# Altium schematic symbol library SCUM-V.SchLib: 2 symbols
Pins are listed as number, name and electrical type; pins without a type are passive.

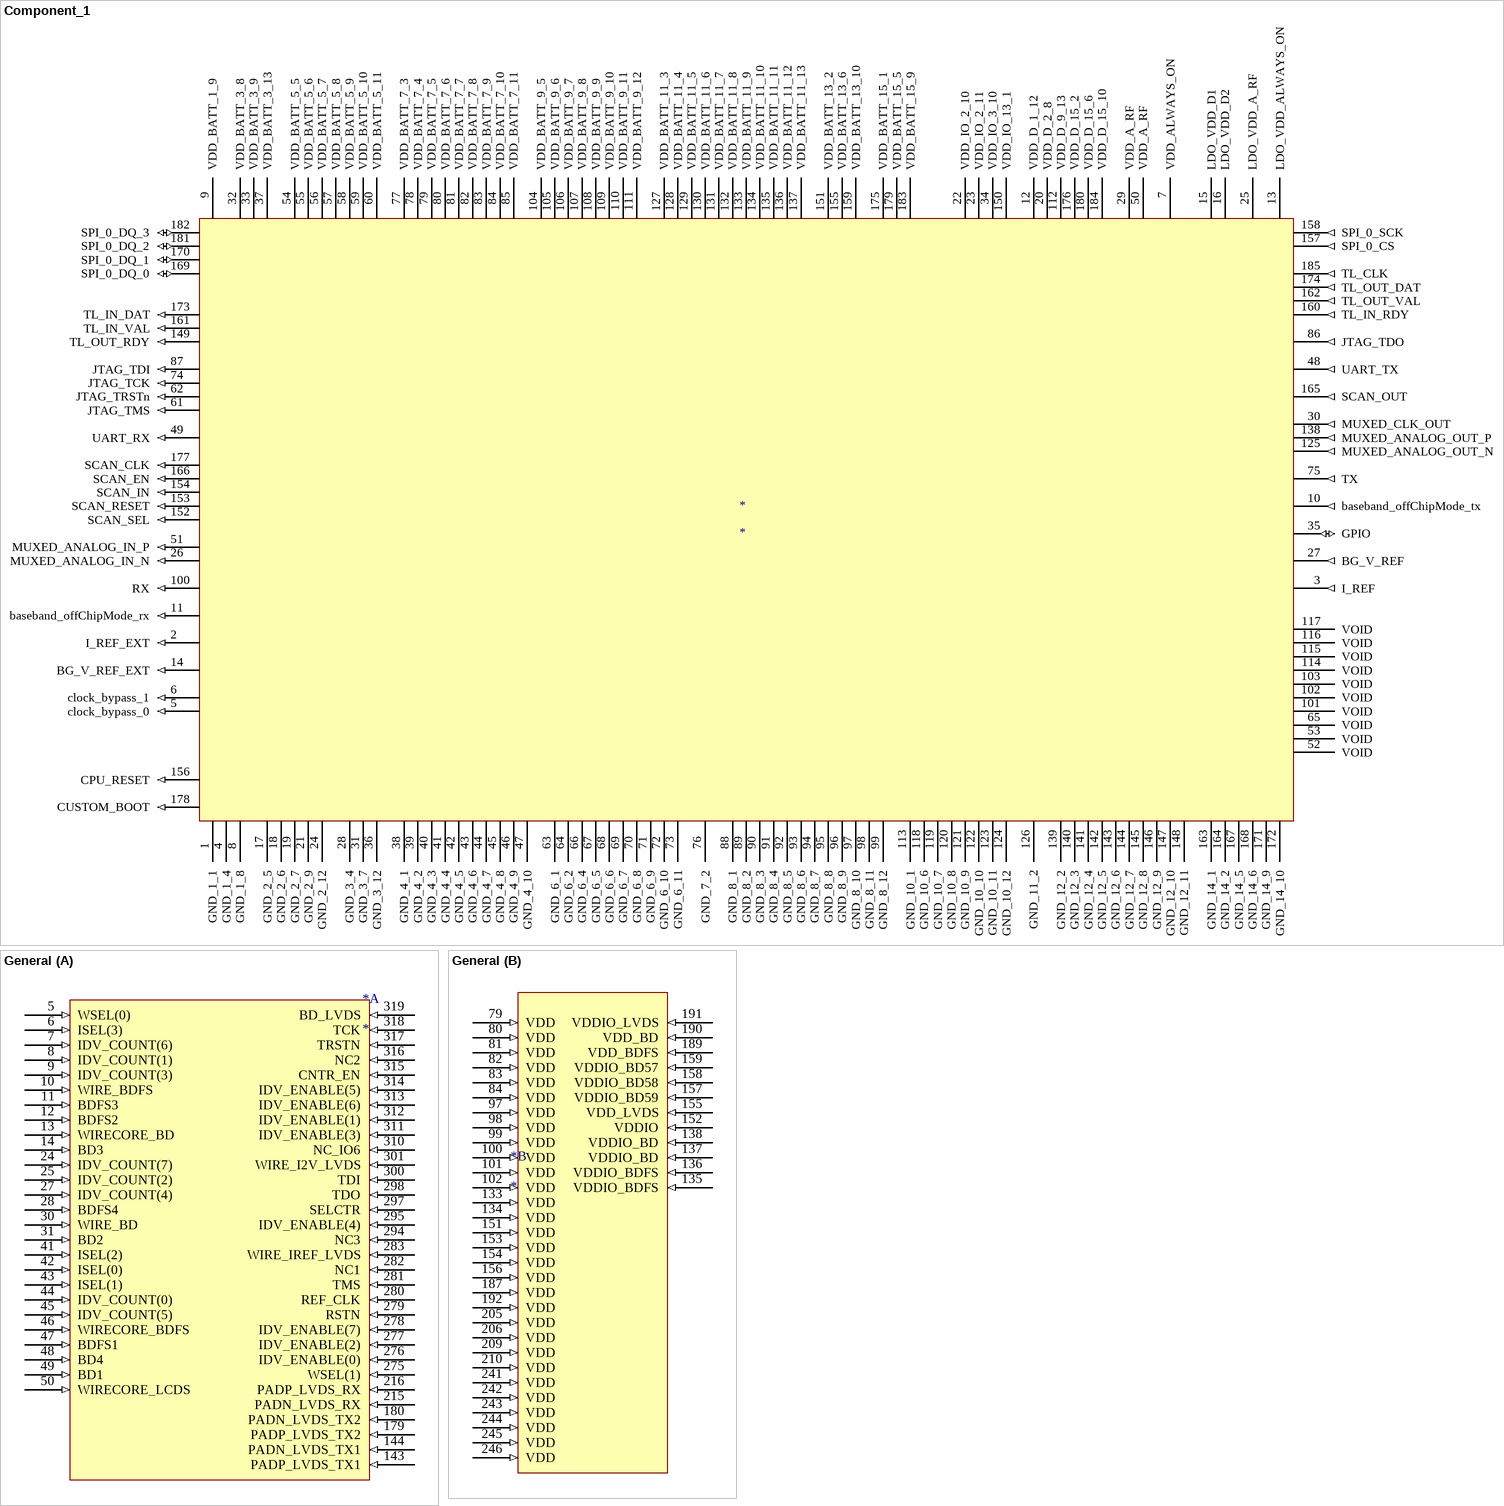
[diagram p0: symbols Component_1 to General]

## Component_1
designator *
pins: 1 GND_1_1 (power), 2 I_REF_EXT (in), 3 I_REF (out), 4 GND_1_4 (power), 5 clock_bypass_0 (in), 6 clock_bypass_1 (in), 7 VDD_ALWAYS_ON (power), 8 GND_1_8 (power), 9 VDD_BATT_1_9 (power), 10 baseband_offChipMode_tx (out), 11 baseband_offChipMode_rx (in), 12 VDD_D_1_12 (power), 13 LDO_VDD_ALWAYS_ON (power), 14 BG_V_REF_EXT (in), 15 LDO_VDD_D1 (power), 16 LDO_VDD_D2 (power), 17 GND_2_5 (power), 18 GND_2_6 (power), 19 GND_2_7 (power), 20 VDD_D_2_8 (power), 21 GND_2_9 (power), 22 VDD_IO_2_10 (power), 23 VDD_IO_2_11 (power), 24 GND_2_12 (power), 25 LDO_VDD_A_RF (power), 26 MUXED_ANALOG_IN_N (in), 27 BG_V_REF (out), 28 GND_3_4 (power), 29 VDD_A_RF (power), 30 MUXED_CLK_OUT (out), 31 GND_3_7 (power), 32 VDD_BATT_3_8 (power), 33 VDD_BATT_3_9 (power), 34 VDD_IO_3_10 (power), 35 GPIO (io), 36 GND_3_12 (power), 37 VDD_BATT_3_13 (power), 38 GND_4_1 (power), 39 GND_4_2 (power), 40 GND_4_3 (power), 41 GND_4_4 (power), 42 GND_4_5 (power), 43 GND_4_6 (power), 44 GND_4_7 (power), 45 GND_4_8 (power), 46 GND_4_9 (power), 47 GND_4_10 (power), 48 UART_TX (out), 49 UART_RX (in), 50 VDD_A_RF (power), 51 MUXED_ANALOG_IN_P (in), 52 VOID (hiz), 53 VOID (hiz), 54 VDD_BATT_5_5 (power), 55 VDD_BATT_5_6 (power), 56 VDD_BATT_5_7 (power), 57 VDD_BATT_5_8 (power), 58 VDD_BATT_5_9 (power), 59 VDD_BATT_5_10 (power), 60 VDD_BATT_5_11 (power), 61 JTAG_TMS (in), 62 JTAG_TRSTn (in), 63 GND_6_1 (power), 64 GND_6_2 (power), 65 VOID (hiz), 66 GND_6_4 (power), 67 GND_6_5 (power), 68 GND_6_6 (power), 69 GND_6_7 (power), 70 GND_6_8 (power), 71 GND_6_9 (power), 72 GND_6_10 (power), 73 GND_6_11 (power), 74 JTAG_TCK (in), 75 TX (out), 76 GND_7_2 (power), 77 VDD_BATT_7_3 (power), 78 VDD_BATT_7_4 (power), 79 VDD_BATT_7_5 (power), 80 VDD_BATT_7_6 (power), 81 VDD_BATT_7_7 (power), 82 VDD_BATT_7_8 (power), 83 VDD_BATT_7_9 (power), 84 VDD_BATT_7_10 (power), 85 VDD_BATT_7_11 (power), 86 JTAG_TDO (out), 87 JTAG_TDI (in), 88 GND_8_1 (power), 89 GND_8_2 (power), 90 GND_8_3 (power), 91 GND_8_4 (power), 92 GND_8_5 (power), 93 GND_8_6 (power), 94 GND_8_7 (power), 95 GND_8_8 (power), 96 GND_8_9 (power), 97 GND_8_10 (power), 98 GND_8_11 (power), 99 GND_8_12 (power), 100 RX (in), 101 VOID (hiz), 102 VOID (hiz), 103 VOID (hiz), 104 VDD_BATT_9_5 (power), 105 VDD_BATT_9_6 (power), 106 VDD_BATT_9_7 (power), 107 VDD_BATT_9_8 (power), 108 VDD_BATT_9_9 (power), 109 VDD_BATT_9_10 (power), 110 VDD_BATT_9_11 (power), 111 VDD_BATT_9_12 (power), 112 VDD_D_9_13 (power), 113 GND_10_1 (power), 114 VOID (hiz), 115 VOID (hiz), 116 VOID (hiz), 117 VOID (hiz), 118 GND_10_6 (power), 119 GND_10_7 (power), 120 GND_10_8 (power), 121 GND_10_9 (power), 122 GND_10_10 (power), 123 GND_10_11 (power), 124 GND_10_12 (power), 125 MUXED_ANALOG_OUT_N (out), 126 GND_11_2 (power), 127 VDD_BATT_11_3 (power), 128 VDD_BATT_11_4 (power), 129 VDD_BATT_11_5 (power), 130 VDD_BATT_11_6 (power), 131 VDD_BATT_11_7 (power), 132 VDD_BATT_11_8 (power), 133 VDD_BATT_11_9 (power), 134 VDD_BATT_11_10 (power), 135 VDD_BATT_11_11 (power), 136 VDD_BATT_11_12 (power), 137 VDD_BATT_11_13 (power), 138 MUXED_ANALOG_OUT_P (out), 139 GND_12_2 (power), 140 GND_12_3 (power), 141 GND_12_4 (power), 142 GND_12_5 (power), 143 GND_12_6 (power), 144 GND_12_7 (power), 145 GND_12_8 (power), 146 GND_12_9 (power), 147 GND_12_10 (power), 148 GND_12_11 (power), 149 TL_OUT_RDY (in), 150 VDD_IO_13_1 (power), 151 VDD_BATT_13_2 (power), 152 SCAN_SEL (in), 153 SCAN_RESET (in), 154 SCAN_IN (in), 155 VDD_BATT_13_6 (power), 156 CPU_RESET (in), 157 SPI_0_CS (out), 158 SPI_0_SCK (out), 159 VDD_BATT_13_10 (power), 160 TL_IN_RDY (out), 161 TL_IN_VAL (in), 162 TL_OUT_VAL (out), 163 GND_14_1 (power), 164 GND_14_2 (power), 165 SCAN_OUT (out), 166 SCAN_EN (in), 167 GND_14_5 (power), 168 GND_14_6 (power), 169 SPI_0_DQ_0 (io), 170 SPI_0_DQ_1 (io), 171 GND_14_9 (power), 172 GND_14_10 (power), 173 TL_IN_DAT (in), 174 TL_OUT_DAT (out), 175 VDD_BATT_15_1 (power), 176 VDD_D_15_2 (power), 177 SCAN_CLK (in), 178 CUSTOM_BOOT (in), 179 VDD_BATT_15_5 (power), 180 VDD_D_15_6 (power), 181 SPI_0_DQ_2 (io), 182 SPI_0_DQ_3 (io), 183 VDD_BATT_15_9 (power), 184 VDD_D_15_10 (power), 185 TL_CLK (out)

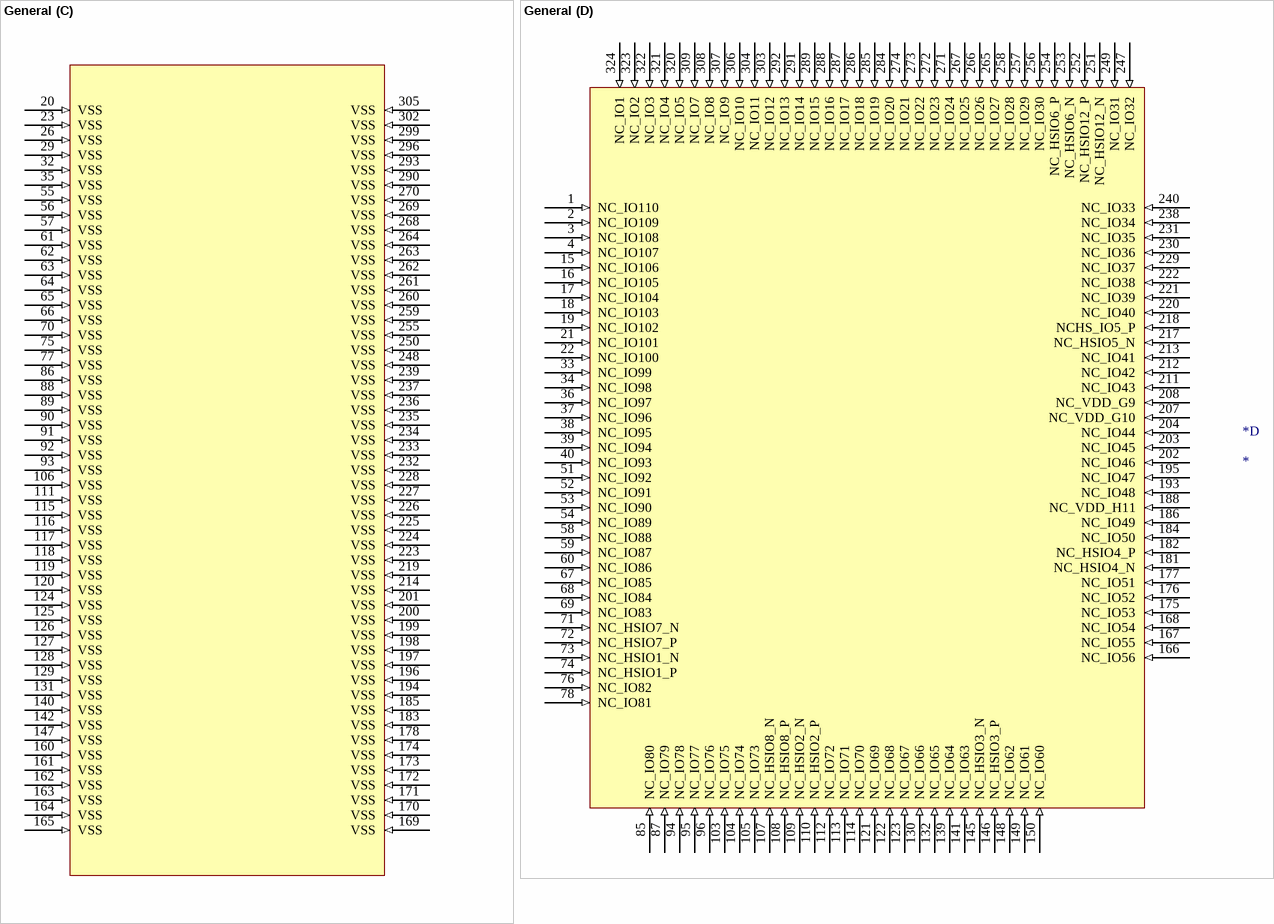
[diagram p1: symbol General]

## General
designator *
footprint FCBGA324x18
part A pins: 5 WSEL(0) (in), 6 ISEL(3) (in), 7 IDV_COUNT(6) (in), 8 IDV_COUNT(1) (in), 9 IDV_COUNT(3) (in), 10 WIRE_BDFS (in), 11 BDFS3 (in), 12 BDFS2 (in), 13 WIRECORE_BD (in), 14 BD3 (in), 24 IDV_COUNT(7) (in), 25 IDV_COUNT(2) (in), 27 IDV_COUNT(4) (in), 28 BDFS4 (in), 30 WIRE_BD (in), 31 BD2 (in), 41 ISEL(2) (in), 42 ISEL(0) (in), 43 ISEL(1) (in), 44 IDV_COUNT(0) (in), 45 IDV_COUNT(5) (in), 46 WIRECORE_BDFS (in), 47 BDFS1 (in), 48 BD4 (in), 49 BD1 (in), 50 WIRECORE_LCDS (in), 143 PADP_LVDS_TX1 (in), 144 PADN_LVDS_TX1 (in), 179 PADP_LVDS_TX2 (in), 180 PADN_LVDS_TX2 (in), 215 PADN_LVDS_RX (in), 216 PADP_LVDS_RX (in), 275 WSEL(1) (in), 276 IDV_ENABLE(0) (in), 277 IDV_ENABLE(2) (in), 278 IDV_ENABLE(7) (in), 279 RSTN (in), 280 REF_CLK (in), 281 TMS (in), 282 NC1 (in), 283 WIRE_IREF_LVDS (in), 294 NC3 (in), 295 IDV_ENABLE(4) (in), 297 SELCTR (in), 298 TDO (in), 300 TDI (in), 301 WIRE_I2V_LVDS (in), 310 NC_IO6 (in), 311 IDV_ENABLE(3) (in), 312 IDV_ENABLE(1) (in), 313 IDV_ENABLE(6) (in), 314 IDV_ENABLE(5) (in), 315 CNTR_EN (in), 316 NC2 (in), 317 TRSTN (in), 318 TCK (in), 319 BD_LVDS (in)
part B pins: 79 VDD (in), 80 VDD (in), 81 VDD (in), 82 VDD (in), 83 VDD (in), 84 VDD (in), 97 VDD (in), 98 VDD (in), 99 VDD (in), 100 VDD (in), 101 VDD (in), 102 VDD (in), 133 VDD (in), 134 VDD (in), 135 VDDIO_BDFS (in), 136 VDDIO_BDFS (in), 137 VDDIO_BD (in), 138 VDDIO_BD (in), 151 VDD (in), 152 VDDIO (in), 153 VDD (in), 154 VDD (in), 155 VDD_LVDS (in), 156 VDD (in), 157 VDDIO_BD59 (in), 158 VDDIO_BD58 (in), 159 VDDIO_BD57 (in), 187 VDD (in), 189 VDD_BDFS (in), 190 VDD_BD (in), 191 VDDIO_LVDS (in), 192 VDD (in), 205 VDD (in), 206 VDD (in), 209 VDD (in), 210 VDD (in), 241 VDD (in), 242 VDD (in), 243 VDD (in), 244 VDD (in), 245 VDD (in), 246 VDD (in)
part C pins: 20 VSS (in), 23 VSS (in), 26 VSS (in), 29 VSS (in), 32 VSS (in), 35 VSS (in), 55 VSS (in), 56 VSS (in), 57 VSS (in), 61 VSS (in), 62 VSS (in), 63 VSS (in), 64 VSS (in), 65 VSS (in), 66 VSS (in), 70 VSS (in), 75 VSS (in), 77 VSS (in), 86 VSS (in), 88 VSS (in), 89 VSS (in), 90 VSS (in), 91 VSS (in), 92 VSS (in), 93 VSS (in), 106 VSS (in), 111 VSS (in), 115 VSS (in), 116 VSS (in), 117 VSS (in), 118 VSS (in), 119 VSS (in), 120 VSS (in), 124 VSS (in), 125 VSS (in), 126 VSS (in), 127 VSS (in), 128 VSS (in), 129 VSS (in), 131 VSS (in), 140 VSS (in), 142 VSS (in), 147 VSS (in), 160 VSS (in), 161 VSS (in), 162 VSS (in), 163 VSS (in), 164 VSS (in), 165 VSS (in), 169 VSS (in), 170 VSS (in), 171 VSS (in), 172 VSS (in), 173 VSS (in), 174 VSS (in), 178 VSS (in), 183 VSS (in), 185 VSS (in), 194 VSS (in), 196 VSS (in), 197 VSS (in), 198 VSS (in), 199 VSS (in), 200 VSS (in), 201 VSS (in), 214 VSS (in), 219 VSS (in), 223 VSS (in), 224 VSS (in), 225 VSS (in), 226 VSS (in), 227 VSS (in), 228 VSS (in), 232 VSS (in), 233 VSS (in), 234 VSS (in), 235 VSS (in), 236 VSS (in), 237 VSS (in), 239 VSS (in), 248 VSS (in), 250 VSS (in), 255 VSS (in), 259 VSS (in), 260 VSS (in), 261 VSS (in), 262 VSS (in), 263 VSS (in), 264 VSS (in), 268 VSS (in), 269 VSS (in), 270 VSS (in), 290 VSS (in), 293 VSS (in), 296 VSS (in), 299 VSS (in), 302 VSS (in), 305 VSS (in)
part D pins: 1 NC_IO110 (in), 2 NC_IO109 (in), 3 NC_IO108 (in), 4 NC_IO107 (in), 15 NC_IO106 (in), 16 NC_IO105 (in), 17 NC_IO104 (in), 18 NC_IO103 (in), 19 NC_IO102 (in), 21 NC_IO101 (in), 22 NC_IO100 (in), 33 NC_IO99 (in), 34 NC_IO98 (in), 36 NC_IO97 (in), 37 NC_IO96 (in), 38 NC_IO95 (in), 39 NC_IO94 (in), 40 NC_IO93 (in), 51 NC_IO92 (in), 52 NC_IO91 (in), 53 NC_IO90 (in), 54 NC_IO89 (in), 58 NC_IO88 (in), 59 NC_IO87 (in), 60 NC_IO86 (in), 67 NC_IO85 (in), 68 NC_IO84 (in), 69 NC_IO83 (in), 71 NC_HSIO7_N (in), 72 NC_HSIO7_P (in), 73 NC_HSIO1_N (in), 74 NC_HSIO1_P (in), 76 NC_IO82 (in), 78 NC_IO81 (in), 85 NC_IO80 (in), 87 NC_IO79 (in), 94 NC_IO78 (in), 95 NC_IO77 (in), 96 NC_IO76 (in), 103 NC_IO75 (in), 104 NC_IO74 (in), 105 NC_IO73 (in), 107 NC_HSIO8_N (in), 108 NC_HSIO8_P (in), 109 NC_HSIO2_N (in), 110 NC_HSIO2_P (in), 112 NC_IO72 (in), 113 NC_IO71 (in), 114 NC_IO70 (in), 121 NC_IO69 (in), 122 NC_IO68 (in), 123 NC_IO67 (in), 130 NC_IO66 (in), 132 NC_IO65 (in), 139 NC_IO64 (in), 141 NC_IO63 (in), 145 NC_HSIO3_N (in), 146 NC_HSIO3_P (in), 148 NC_IO62 (in), 149 NC_IO61 (in), 150 NC_IO60 (in), 166 NC_IO56 (in), 167 NC_IO55 (in), 168 NC_IO54 (in), 175 NC_IO53 (in), 176 NC_IO52 (in), 177 NC_IO51 (in), 181 NC_HSIO4_N (in), 182 NC_HSIO4_P (in), 184 NC_IO50 (in), 186 NC_IO49 (in), 188 NC_VDD_H11 (in), 193 NC_IO48 (in), 195 NC_IO47 (in), 202 NC_IO46 (in), 203 NC_IO45 (in), 204 NC_IO44 (in), 207 NC_VDD_G10 (in), 208 NC_VDD_G9 (in), 211 NC_IO43 (in), 212 NC_IO42 (in), 213 NC_IO41 (in), 217 NC_HSIO5_N (in), 218 NCHS_IO5_P (in), 220 NC_IO40 (in), 221 NC_IO39 (in), 222 NC_IO38 (in), 229 NC_IO37 (in), 230 NC_IO36 (in), 231 NC_IO35 (in), 238 NC_IO34 (in), 240 NC_IO33 (in), 247 NC_IO32 (in), 249 NC_IO31 (in), 251 NC_HSIO12_N (in), 252 NC_HSIO12_P (in), 253 NC_HSIO6_N (in), 254 NC_HSIO6_P (in), 256 NC_IO30 (in), 257 NC_IO29 (in), 258 NC_IO28 (in), 265 NC_IO27 (in), 266 NC_IO26 (in), 267 NC_IO25 (in), 271 NC_IO24 (in), 272 NC_IO23 (in), 273 NC_IO22 (in), 274 NC_IO21 (in), 284 NC_IO20 (in), 285 NC_IO19 (in), 286 NC_IO18 (in), 287 NC_IO17 (in), 288 NC_IO16 (in), 289 NC_IO15 (in), 291 NC_IO14 (in), 292 NC_IO13 (in), 303 NC_IO12 (in), 304 NC_IO11 (in), 306 NC_IO10 (in), 307 NC_IO9 (in), 308 NC_IO8 (in), 309 NC_IO7 (in), 320 NC_IO5 (in), 321 NC_IO4 (in), 322 NC_IO3 (in), 323 NC_IO2 (in), 324 NC_IO1 (in)